# Altium footprint library GY-25.PcbLib: 1 footprints
Each footprint in its own frame and in the unit in brackets; x right, y up, seen from the top. Pads: shape width x height; smd on the part's side, far side on the other; paste and mask are expansions set on the pad; w line width, h text height; cw(c..) or ccw(c..) is an arc to the next point about the centre after c.
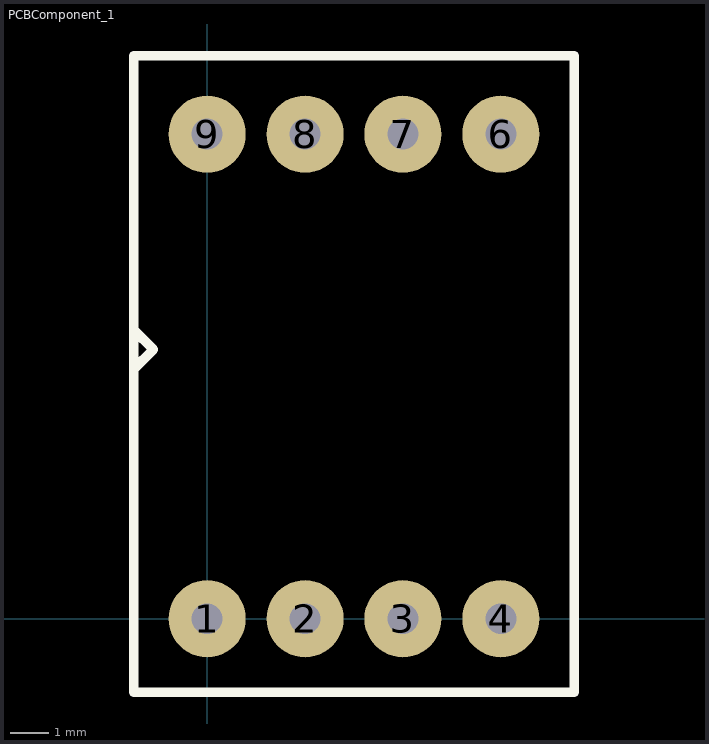
[diagram p0: the footprint, top view; thin cyan lines are the x and y axes]

## PCBComponent_1 [mm]
pads (8):
  round 2 hole 0.8: 1(0,0) 2(2.54,0) 3(5.08,0) 4(7.62,0) 6(7.62,12.573) 7(5.08,12.573) 8(2.54,12.573) 9(0,12.573)
Top Overlay:
  lines w0.254: -1.905,6.477 -1.397,6.985 -1.905,7.493 -1.905,7.747 ; -1.905,-1.905 -1.905,14.605 9.525,14.605 9.525,-1.905 -1.905,-1.905